# EAGLE library part 53261-7008 (library 53261-7008)
1.25mm Pitch, PicoBlade PCB Header, Single Row, Right-Angle, Surface Mount, Gold (Au) Plating, Friction Lock, Circuits, Tape and Reel Source: Datasheet <https://componentsearchengine.com/Datasheets/1/53261-7008.pdf>
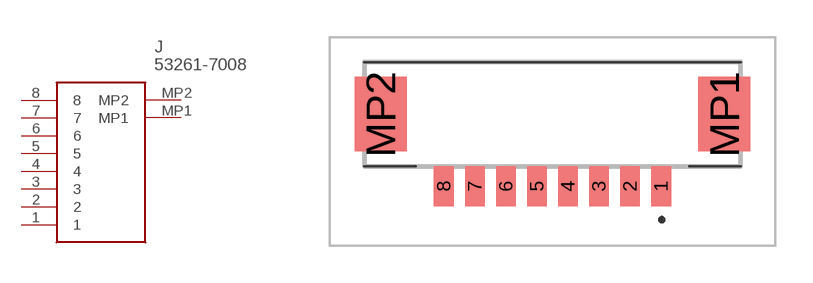
[diagram p0: symbol with the pads of 532617008; footprint 532617008]

Designator prefix J

## 53261-7008 (Description: 1.25mm Pitch, PicoBlade PCB Header, Single Row, Right-Angle, Surface Mount, Gold (Au) Plating, Friction Lock, Circuits, Tape and Reel; Height: 3.4mm; Manufacturer_Name: Molex; Manufacturer_Part_Number: 53261-7008; Mouser_Part_Number: 538-53261-7008; Mouser_Price-Stock: https://www.mouser.co.uk/ProductDetail/Molex/53261-7008?qs=0lSvoLzn4L%2FGiHchImg8rw%3D%3D)  [532617008]
1  1
2  2
3  3
4  4
5  5
6  6
7  7
8  8
MP1  MP1
MP2  MP2

## Footprint 532617008 (pad centres in mm)
53261-7008-1
smd 0.8 x 1.6: 1 4.375,-2.9; 2 3.125,-2.9; 3 1.875,-2.9; 4 0.625,-2.9; 5 -0.625,-2.9; 6 -1.875,-2.9; 7 -3.125,-2.9; 8 -4.375,-2.9
smd 2.1 x 3: MP1 6.925,0; MP2 -6.925,0